# Altium schematic symbol library MD_CR40-100EC.SchLib: 1 symbol
Pins are listed as number, name and electrical type; pins without a type are passive.

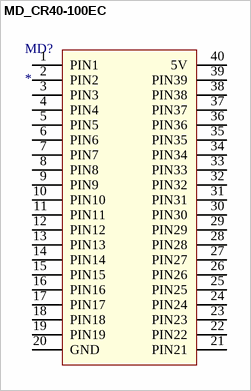
[diagram p0: symbol MD_CR40-100EC]

## MD_CR40-100EC
designator MD?
pins: 1 PIN1, 2 PIN2, 3 PIN3, 4 PIN4, 5 PIN5, 6 PIN6, 7 PIN7, 8 PIN8, 9 PIN9, 10 PIN10, 11 PIN11, 12 PIN12, 13 PIN13, 14 PIN14, 15 PIN15, 16 PIN16, 17 PIN17, 18 PIN18, 19 PIN19, 20 GND, 21 PIN21, 22 PIN22, 23 PIN23, 24 PIN24, 25 PIN25, 26 PIN26, 27 PIN27, 28 PIN28, 29 PIN29, 30 PIN30, 31 PIN31, 32 PIN32, 33 PIN33, 34 PIN34, 35 PIN35, 36 PIN36, 37 PIN37, 38 PIN38, 39 PIN39, 40 5V